# EAGLE library part NXP-GTL2002 (library Pygmy)
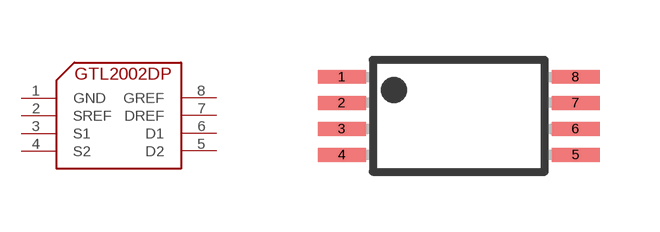
[diagram p29: symbol with the pads of TSSOP8; footprint TSSOP8]

Designator prefix -

## NXP-GTL2002  [TSSOP8]
1  GND
2  SREF
3  S1
4  S2
5  D2
6  D1
7  DREF
8  GREF

## Footprint TSSOP8 (pad centres in mm)
Plastic Small Outline
smd 1.2 x 0.35: 1 -2.925,0.975; 2 -2.925,0.325; 3 -2.925,-0.325; 4 -2.925,-0.975; 5 2.925,-0.975; 6 2.925,-0.325; 7 2.925,0.325; 8 2.925,0.975